# Altium footprint library Inductor_SMD.PcbLib: 587 footprints (part 31 of 37)
Each footprint in its own frame and in the unit in brackets; x right, y up, seen from the top. Pads: shape width x height; smd on the part's side, far side on the other; paste and mask are expansions set on the pad; w line width, h text height; cw(c..) or ccw(c..) is an arc to the next point about the centre after c.
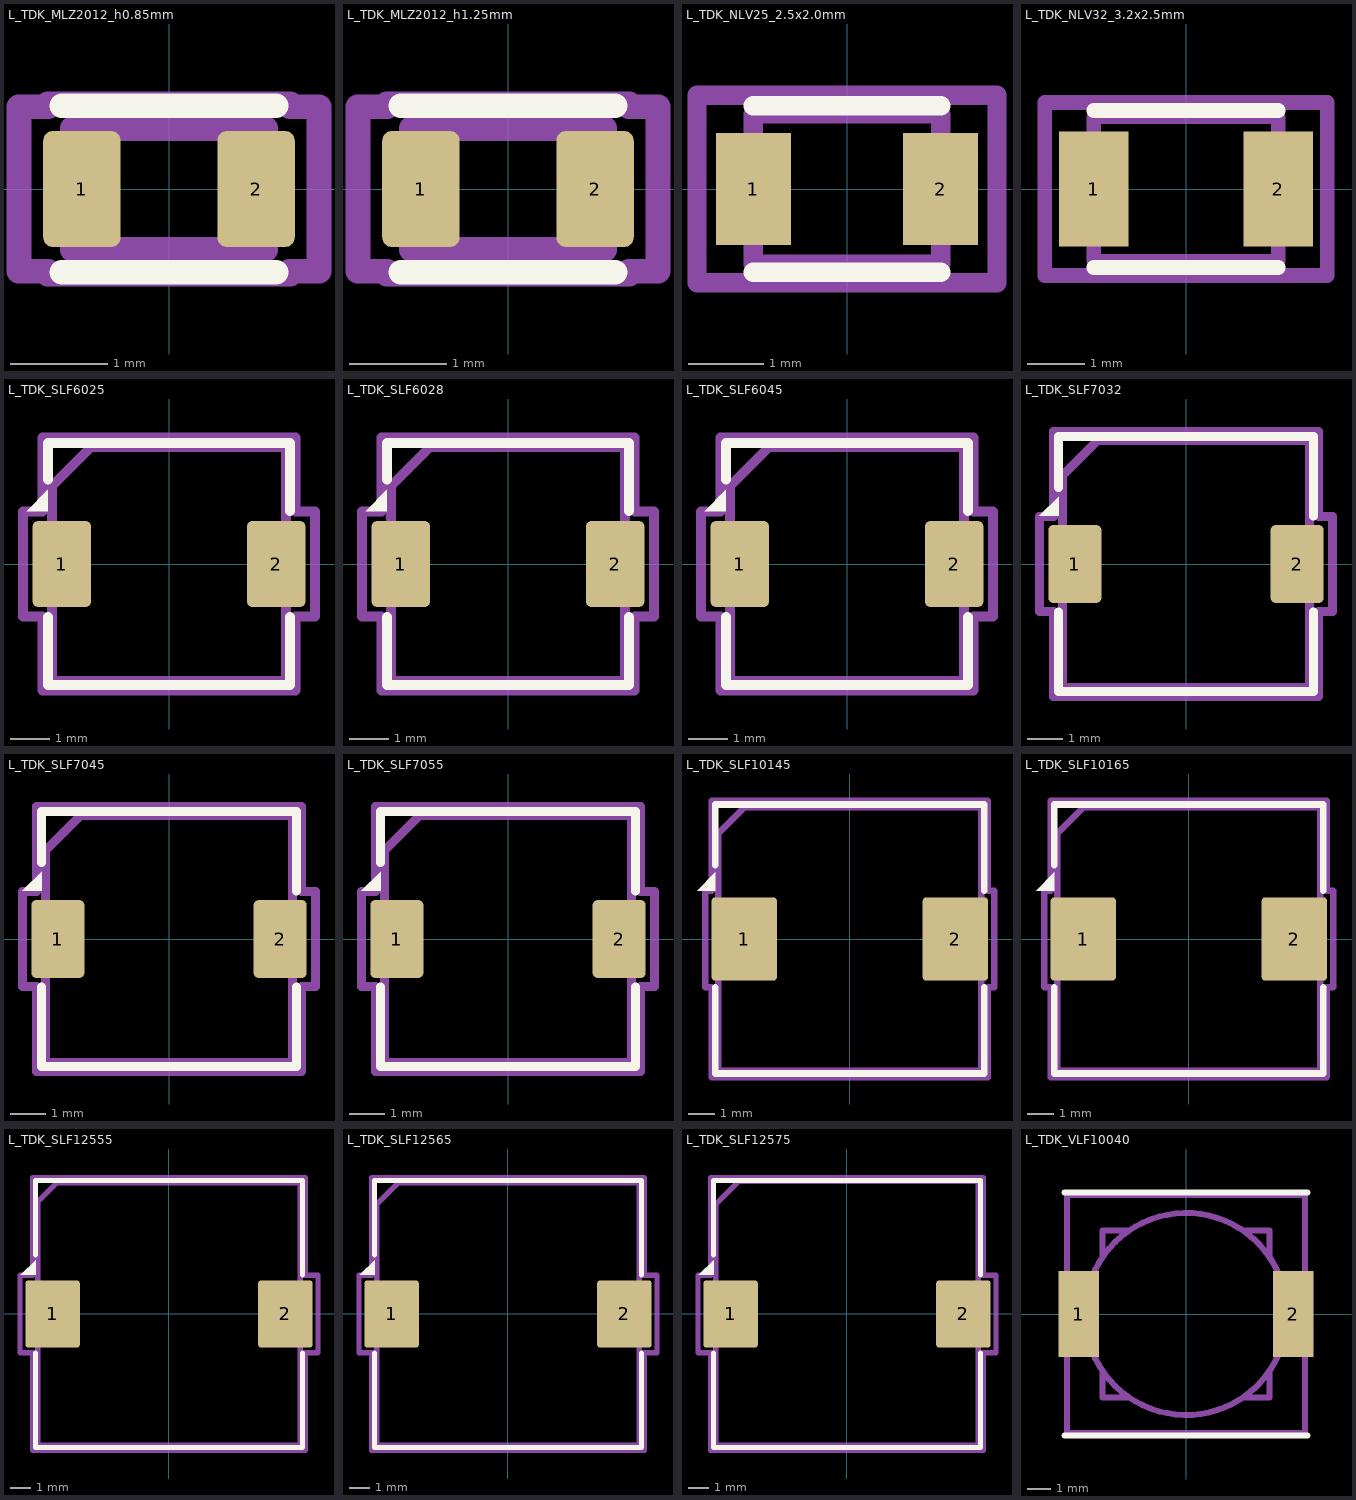
[diagram p30: the footprints below, top view; thin cyan lines are the x and y axes]

## L_TDK_MLZ2012_h0.85mm [mm] "L_TDK_MLZ2012_h0.85mm"
pads (2):
  rrect25% 0.8x1.2 smd: 1(-0.9,0) 2(0.9,0)
F.SilkS:
  lines w0.254: -1.11,-0.86 1.11,-0.86 ; -1.11,0.86 1.11,0.86
Top Assembly:
  lines w0.254: -1,-0.625 -1,0.625 1,0.625 1,-0.625 -1,-0.625
  text "'.Designator'" at -2.028,-0.425 h0.5
Top Courtyard:
  lines w0.254: -1.55,-0.85 -1.55,0.85 -1.25,0.85 -1.25,0.88 1.25,0.88 1.25,0.85 1.55,0.85 1.55,-0.85 1.25,-0.85 1.25,-0.88 -1.25,-0.88 -1.25,-0.85 -1.55,-0.85
Top Designator:
  text ".Designator" at -7.698,-0.508 h1.52

## L_TDK_MLZ2012_h1.25mm [mm] "L_TDK_MLZ2012_h1.25mm"
pads (2):
  rrect25% 0.8x1.2 smd: 1(-0.9,0) 2(0.9,0)
F.SilkS:
  lines w0.254: -1.11,-0.86 1.11,-0.86 ; -1.11,0.86 1.11,0.86
Top Assembly:
  lines w0.254: -1,-0.625 -1,0.625 1,0.625 1,-0.625 -1,-0.625
  text "'.Designator'" at -2.028,-0.425 h0.5
Top Courtyard:
  lines w0.254: -1.55,-0.85 -1.55,0.85 -1.25,0.85 -1.25,0.88 1.25,0.88 1.25,0.85 1.55,0.85 1.55,-0.85 1.25,-0.85 1.25,-0.88 -1.25,-0.88 -1.25,-0.85 -1.55,-0.85
Top Designator:
  text ".Designator" at -7.698,-0.508 h1.52

## L_TDK_NLV25_2.5x2.0mm [mm] "L_TDK_NLV25_2.5x2.0mm"
pads (2):
  rect 1x1.5 smd: 1(-1.25,0) 2(1.25,0)
F.SilkS:
  lines w0.254: -1.25,-1.11 1.25,-1.11 ; -1.25,1.11 1.25,1.11
Top Assembly:
  lines w0.254: -1.25,-1 -1.25,1 1.25,1 1.25,-1 -1.25,-1
  text "'.Designator'" at -2.028,-0.425 h0.5
Top Courtyard:
  lines w0.254: -2,-1.25 -2,1.25 2,1.25 2,-1.25 -2,-1.25
Top Designator:
  text ".Designator" at -7.618,-0.508 h1.52

## L_TDK_NLV32_3.2x2.5mm [mm] "L_TDK_NLV32_3.2x2.5mm"
pads (2):
  rect 1.2x2 smd: 1(-1.6,0) 2(1.6,0)
F.SilkS:
  lines w0.254: -1.6,-1.36 1.6,-1.36 ; -1.6,1.36 1.6,1.36
Top Assembly:
  lines w0.254: -1.6,-1.25 1.6,-1.25 1.6,1.25 -1.6,1.25 -1.6,-1.25
  text "'.Designator'" at -2.028,-0.425 h0.5
Top Courtyard:
  lines w0.254: -2.45,-1.5 2.45,-1.5 2.45,1.5 -2.45,1.5 -2.45,-1.5
Top Designator:
  text ".Designator" at -7.618,-0.508 h1.52

## L_TDK_SLF6025 [mm] "L_TDK_SLF6025"
pads (2):
  rrect17% 1.5x2.2 smd: 1(-2.75,0) 2(2.75,0)
F.SilkS:
  region: -3.11,1.36 -3.654,1.36 -3.11,1.904
  lines w0.254: -3.11,-1.36 -3.11,-3.11 3.11,-3.11 3.11,-1.36 ; -3.11,2.164 -3.11,3.11 3.11,3.11 3.11,1.36
Top Assembly:
  lines w0.254: -3,-3 -3,2 -2,3 3,3 3,-3 -3,-3
  text "'.Designator'" at -4.047,-0.84 h1
Top Courtyard:
  lines w0.254: -3.75,-1.35 -3.75,1.35 -3.25,1.35 -3.25,3.25 3.25,3.25 3.25,1.35 3.75,1.35 3.75,-1.35 3.25,-1.35 3.25,-3.25 -3.25,-3.25 -3.25,-1.35 -3.75,-1.35
Top Designator:
  text ".Designator" at -7.618,-0.508 h1.52
3D body "L_TDK_SLF6025.step": height 2.5, standoff 0, extent -3,-3 3,3

## L_TDK_SLF6028 [mm] "L_TDK_SLF6028"
pads (2):
  rrect17% 1.5x2.2 smd: 1(-2.75,0) 2(2.75,0)
F.SilkS:
  region: -3.11,1.36 -3.654,1.36 -3.11,1.904
  lines w0.254: -3.11,-1.36 -3.11,-3.11 3.11,-3.11 3.11,-1.36 ; -3.11,2.164 -3.11,3.11 3.11,3.11 3.11,1.36
Top Assembly:
  lines w0.254: -3,-3 3,-3 3,3 -2,3 -3,2 -3,-3
  text "'.Designator'" at -4.047,-0.84 h1
Top Courtyard:
  lines w0.254: -3.75,-1.35 -3.25,-1.35 -3.25,-3.25 3.25,-3.25 3.25,-1.35 3.75,-1.35 3.75,1.35 3.25,1.35 3.25,3.25 -3.25,3.25 -3.25,1.35 -3.75,1.35 -3.75,-1.35
Top Designator:
  text ".Designator" at -7.768,-0.508 h1.52
3D body "L_TDK_SLF6028.step": height 2.5, standoff 0, extent -3,-3 3,3

## L_TDK_SLF6045 [mm] "L_TDK_SLF6045"
pads (2):
  rrect17% 1.5x2.2 smd: 1(-2.75,0) 2(2.75,0)
F.SilkS:
  region: -3.11,1.36 -3.654,1.36 -3.11,1.904
  lines w0.254: -3.11,-1.36 -3.11,-3.11 3.11,-3.11 3.11,-1.36 ; -3.11,2.164 -3.11,3.11 3.11,3.11 3.11,1.36
Top Assembly:
  lines w0.254: -3,-3 3,-3 3,3 -2,3 -3,2 -3,-3
  text "'.Designator'" at -4.047,-0.84 h1
Top Courtyard:
  lines w0.254: -3.75,-1.35 -3.25,-1.35 -3.25,-3.25 3.25,-3.25 3.25,-1.35 3.75,-1.35 3.75,1.35 3.25,1.35 3.25,3.25 -3.25,3.25 -3.25,1.35 -3.75,1.35 -3.75,-1.35
Top Designator:
  text ".Designator" at -7.768,-0.508 h1.52
3D body "L_TDK_SLF6045.step": height 2.5, standoff 0, extent -3,-3 3,3

## L_TDK_SLF7032 [mm] "L_TDK_SLF7032"
pads (2):
  rrect17% 1.5x2.2 smd: 1(-3.15,0) 2(3.15,0)
F.SilkS:
  region: -3.61,1.36 -4.154,1.36 -3.61,1.904
  lines w0.254: -3.61,-1.36 -3.61,-3.61 3.61,-3.61 3.61,-1.36 ; -3.61,2.164 -3.61,3.61 3.61,3.61 3.61,1.36
Top Assembly:
  lines w0.254: -3.5,-3.5 -3.5,2.5 -2.5,3.5 3.5,3.5 3.5,-3.5 -3.5,-3.5
  text "'.Designator'" at -4.047,-0.84 h1
Top Courtyard:
  lines w0.254: -4.15,-1.35 -3.75,-1.35 -3.75,-3.75 3.75,-3.75 3.75,-1.35 4.15,-1.35 4.15,1.35 3.75,1.35 3.75,3.75 -3.75,3.75 -3.75,1.35 -4.15,1.35 -4.15,-1.35
Top Designator:
  text ".Designator" at -7.618,-0.508 h1.52
3D body "L_TDK_SLF7032.step": height 2.5, standoff 0, extent -3.5,-3.5 3.5,3.5

## L_TDK_SLF7045 [mm] "L_TDK_SLF7045"
pads (2):
  rrect17% 1.5x2.2 smd: 1(-3.15,0) 2(3.15,0)
F.SilkS:
  region: -3.61,1.36 -4.154,1.36 -3.61,1.904
  lines w0.254: -3.61,-1.36 -3.61,-3.61 3.61,-3.61 3.61,-1.36 ; -3.61,2.164 -3.61,3.61 3.61,3.61 3.61,1.36
Top Assembly:
  lines w0.254: -3.5,-3.5 3.5,-3.5 3.5,3.5 -2.5,3.5 -3.5,2.5 -3.5,-3.5
  text "'.Designator'" at -4.047,-0.84 h1
Top Courtyard:
  lines w0.254: -4.15,-1.35 -4.15,1.35 -3.75,1.35 -3.75,3.75 3.75,3.75 3.75,1.35 4.15,1.35 4.15,-1.35 3.75,-1.35 3.75,-3.75 -3.75,-3.75 -3.75,-1.35 -4.15,-1.35
Top Designator:
  text ".Designator" at -7.618,-0.508 h1.52

## L_TDK_SLF7055 [mm] "L_TDK_SLF7055"
pads (2):
  rrect17% 1.5x2.2 smd: 1(-3.15,0) 2(3.15,0)
F.SilkS:
  region: -3.61,1.36 -4.154,1.36 -3.61,1.904
  lines w0.254: -3.61,-1.36 -3.61,-3.61 3.61,-3.61 3.61,-1.36 ; -3.61,2.164 -3.61,3.61 3.61,3.61 3.61,1.36
Top Assembly:
  lines w0.254: -3.5,-3.5 -3.5,2.5 -2.5,3.5 3.5,3.5 3.5,-3.5 -3.5,-3.5
  text "'.Designator'" at -4.047,-0.84 h1
Top Courtyard:
  lines w0.254: -4.15,-1.35 -3.75,-1.35 -3.75,-3.75 3.75,-3.75 3.75,-1.35 4.15,-1.35 4.15,1.35 3.75,1.35 3.75,3.75 -3.75,3.75 -3.75,1.35 -4.15,1.35 -4.15,-1.35
Top Designator:
  text ".Designator" at -7.618,-0.508 h1.52

## L_TDK_SLF10145 [mm] "L_TDK_SLF10145"
pads (2):
  rrect10% 2.5x3.2 smd: 1(-4.05,0) 2(4.05,0)
F.SilkS:
  region: -5.16,1.86 -5.864,1.86 -5.16,2.564
  lines w0.254: -5.16,-1.86 -5.16,-5.16 5.16,-5.16 5.16,-1.86 ; -5.16,2.824 -5.16,5.16 5.16,5.16 5.16,1.86
Top Assembly:
  lines w0.254: -5.05,-5.05 5.05,-5.05 5.05,5.05 -4.05,5.05 -5.05,4.05 -5.05,-5.05
  text "'.Designator'" at -4.047,-0.84 h1
Top Courtyard:
  lines w0.254: -5.55,-1.85 -5.3,-1.85 -5.3,-5.3 5.3,-5.3 5.3,-1.85 5.55,-1.85 5.55,1.85 5.3,1.85 5.3,5.3 -5.3,5.3 -5.3,1.85 -5.55,1.85 -5.55,-1.85
Top Designator:
  text ".Designator" at -7.711,-0.508 h1.52
3D body "L_TDK_SLF10145.step": height 4.5, standoff 0, extent -5.05,-5.05 5.05,5.05

## L_TDK_SLF10165 [mm] "L_TDK_SLF10165"
pads (2):
  rrect10% 2.5x3.2 smd: 1(-4.05,0) 2(4.05,0)
F.SilkS:
  region: -5.16,1.86 -5.864,1.86 -5.16,2.564
  lines w0.254: -5.16,-1.86 -5.16,-5.16 5.16,-5.16 5.16,-1.86 ; -5.16,2.824 -5.16,5.16 5.16,5.16 5.16,1.86
Top Assembly:
  lines w0.254: -5.05,-5.05 -5.05,4.05 -4.05,5.05 5.05,5.05 5.05,-5.05 -5.05,-5.05
  text "'.Designator'" at -4.047,-0.84 h1
Top Courtyard:
  lines w0.254: -5.55,-1.85 -5.55,1.85 -5.3,1.85 -5.3,5.3 5.3,5.3 5.3,1.85 5.55,1.85 5.55,-1.85 5.3,-1.85 5.3,-5.3 -5.3,-5.3 -5.3,-1.85 -5.55,-1.85
Top Designator:
  text ".Designator" at -7.711,-0.508 h1.52
3D body "L_TDK_SLF10165.step": height 4.5, standoff 0, extent -5.05,-5.05 5.05,5.05

## L_TDK_SLF12555 [mm] "L_TDK_SLF12555"
pads (2):
  rrect10% 2.6x3.2 smd: 1(-5.55,0) 2(5.55,0)
F.SilkS:
  region: -6.36,1.86 -7.064,1.86 -6.36,2.564
  lines w0.254: -6.36,-1.86 -6.36,-6.36 6.36,-6.36 6.36,-1.86 ; -6.36,2.824 -6.36,6.36 6.36,6.36 6.36,1.86
Top Assembly:
  lines w0.254: -6.25,-6.25 -6.25,5.361 -5.361,6.25 6.25,6.25 6.25,-6.25 -6.25,-6.25
  text "'.Designator'" at -4.047,-0.84 h1
Top Courtyard:
  lines w0.254: -7.1,-1.85 -6.5,-1.85 -6.5,-6.5 6.5,-6.5 6.5,-1.85 7.1,-1.85 7.1,1.85 6.5,1.85 6.5,6.5 -6.5,6.5 -6.5,1.85 -7.1,1.85 -7.1,-1.85
Top Designator:
  text ".Designator" at -7.618,-0.508 h1.52
3D body "L_TDK_SLF12555.step": height 6.5, standoff 0, extent -6.25,-6.25 6.25,6.25

## L_TDK_SLF12565 [mm] "L_TDK_SLF12565"
pads (2):
  rrect10% 2.6x3.2 smd: 1(-5.55,0) 2(5.55,0)
F.SilkS:
  region: -6.36,1.86 -7.064,1.86 -6.36,2.564
  lines w0.254: -6.36,-1.86 -6.36,-6.36 6.36,-6.36 6.36,-1.86 ; -6.36,2.824 -6.36,6.36 6.36,6.36 6.36,1.86
Top Assembly:
  lines w0.254: -6.25,-6.25 6.25,-6.25 6.25,6.25 -5.25,6.25 -6.25,5.25 -6.25,-6.25
  text "'.Designator'" at -4.047,-0.84 h1
Top Courtyard:
  lines w0.254: -7.1,-1.85 -7.1,1.85 -6.5,1.85 -6.5,6.5 6.5,6.5 6.5,1.85 7.1,1.85 7.1,-1.85 6.5,-1.85 6.5,-6.5 -6.5,-6.5 -6.5,-1.85 -7.1,-1.85
Top Designator:
  text ".Designator" at -7.618,-0.508 h1.52
3D body "L_TDK_SLF12565.step": height 6.5, standoff 0, extent -6.25,-6.25 6.25,6.25

## L_TDK_SLF12575 [mm] "L_TDK_SLF12575"
pads (2):
  rrect10% 2.6x3.2 smd: 1(-5.55,0) 2(5.55,0)
F.SilkS:
  region: -6.36,1.86 -7.064,1.86 -6.36,2.564
  lines w0.254: -6.36,-1.86 -6.36,-6.36 6.36,-6.36 6.36,-1.86 ; -6.36,2.824 -6.36,6.36 6.36,6.36 6.36,1.86
Top Assembly:
  lines w0.254: -6.25,-6.25 6.25,-6.25 6.25,6.323 -5.177,6.323 -6.25,5.25 -6.25,-6.25
  text "'.Designator'" at -4.047,-0.84 h1
Top Courtyard:
  lines w0.254: -7.1,-1.85 -7.1,1.85 -6.5,1.85 -6.5,6.5 6.5,6.5 6.5,1.85 7.1,1.85 7.1,-1.85 6.5,-1.85 6.5,-6.5 -6.5,-6.5 -6.5,-1.85 -7.1,-1.85
Top Designator:
  text ".Designator" at -7.618,-0.508 h1.52
3D body "L_TDK_SLF12575.step": height 6.5, standoff 0, extent -6.25,-6.25 6.25,6.25

## L_TDK_VLF10040 [mm] "L_TDK_VLF10040"
pads (2):
  rect 1.7x3.6 smd: 1(-4.5,0) 2(4.5,0)
F.SilkS:
  lines w0.254: -5.1,-5.1 5.1,-5.1 ; -5.1,5.1 5.1,5.1
Top Assembly:
  circle w0.254: c0,0 r4.243
  lines w0.254: -3.5,-2.4 -3.5,-3.5 -2.4,-3.5 ; -3.5,2.4 -3.5,3.5 -2.4,3.5 ; 2.4,-3.5 3.5,-3.5 3.5,-2.4 ; 2.4,3.5 3.5,3.5 3.5,2.4
  text "'.Designator'" at -4.047,-0.84 h1
Top Courtyard:
  lines w0.254: -5,-5 -5,5 5,5 5,-5 -5,-5
Top Designator:
  text ".Designator" at -7.618,-0.508 h1.52